# Altium schematic symbol library TPS562207.SchLib: 1 symbol
Pins are listed as number, name and electrical type; pins without a type are passive.

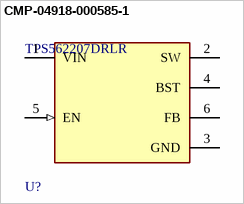
[diagram p0: symbol CMP-04918-000585-1]

## CMP-04918-000585-1
designator U?, comment TPS562207DRLR
4.3-V TO 17-V INPUT, 2-A SYNCHRO
footprint FP-DRL0006A-MFG
pins: 1 VIN (power), 2 SW, 3 GND (power), 4 BST, 5 EN (in), 6 FB